# EAGLE library part TX25-100P-6ST-H1E (library JAE_By_element14_Batch_1)
PCB to PCB Connectors
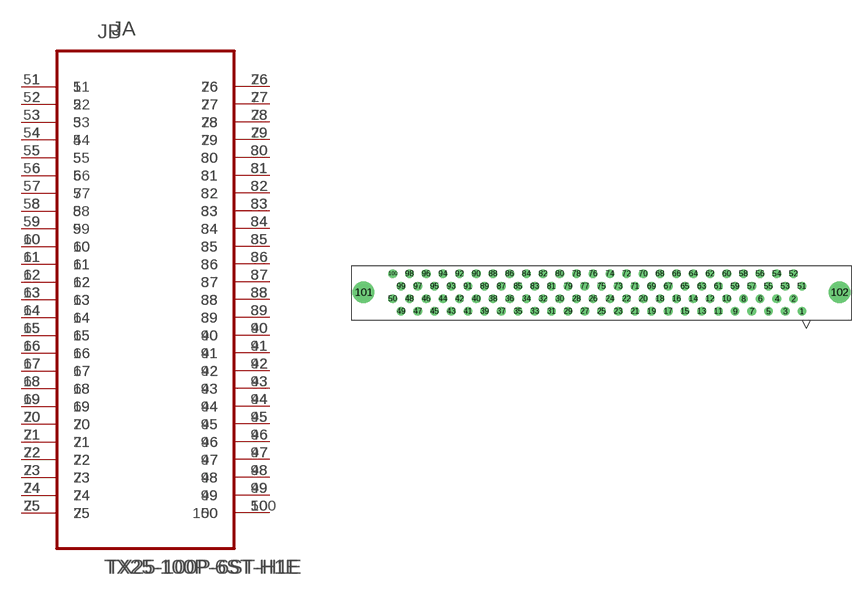
[diagram p13: symbol with the pads of JAE_TX25-100P-6ST-H1E; footprint JAE_TX25-100P-6ST-H1E]

Designator prefix J; gates A=TX25-100P-6ST-H1E_A B=TX25-100P-6ST-H1E_B

## TX25-100P-6ST-H1E (MPN: TX25-100P-6ST-H1E; OC_FARNELL: -; OC_NEWARK: 74M4885; PACKAGE: PLUG, VERTICAL, 100WAY; SUPPLIER: JAE)  [JAE_TX25-100P-6ST-H1E]
1  A:1  pas
2  A:2  pas
3  A:3  pas
4  A:4  pas
5  A:5  pas
6  A:6  pas
7  A:7  pas
8  A:8  pas
9  A:9  pas
10  A:10  pas
11  A:11  pas
12  A:12  pas
13  A:13  pas
14  A:14  pas
15  A:15  pas
16  A:16  pas
17  A:17  pas
18  A:18  pas
19  A:19  pas
20  A:20  pas
21  A:21  pas
22  A:22  pas
23  A:23  pas
24  A:24  pas
25  A:25  pas
26  A:26  pas
27  A:27  pas
28  A:28  pas
29  A:29  pas
30  A:30  pas
31  A:31  pas
32  A:32  pas
33  A:33  pas
34  A:34  pas
35  A:35  pas
36  A:36  pas
37  A:37  pas
38  A:38  pas
39  A:39  pas
40  A:40  pas
41  A:41  pas
42  A:42  pas
43  A:43  pas
44  A:44  pas
45  A:45  pas
46  A:46  pas
47  A:47  pas
48  A:48  pas
49  A:49  pas
50  A:50  pas
51  B:51  pas
52  B:52  pas
53  B:53  pas
54  B:54  pas
55  B:55  pas
56  B:56  pas
57  B:57  pas
58  B:58  pas
59  B:59  pas
60  B:60  pas
61  B:61  pas
62  B:62  pas
63  B:63  pas
64  B:64  pas
65  B:65  pas
66  B:66  pas
67  B:67  pas
68  B:68  pas
69  B:69  pas
70  B:70  pas
71  B:71  pas
72  B:72  pas
73  B:73  pas
74  B:74  pas
75  B:75  pas
76  B:76  pas
77  B:77  pas
78  B:78  pas
79  B:79  pas
80  B:80  pas
81  B:81  pas
82  B:82  pas
83  B:83  pas
84  B:84  pas
85  B:85  pas
86  B:86  pas
87  B:87  pas
88  B:88  pas
89  B:89  pas
90  B:90  pas
91  B:91  pas
92  B:92  pas
93  B:93  pas
94  B:94  pas
95  B:95  pas
96  B:96  pas
97  B:97  pas
98  B:98  pas
99  B:99  pas
100  B:100  pas

## Footprint JAE_TX25-100P-6ST-H1E (pad centres in mm)
drill 0.813: 1 30.48,-6.858; 2 29.21,-4.953; 3 27.94,-6.858; 4 26.67,-4.953; 5 25.4,-6.858; 6 24.13,-4.953; 7 22.86,-6.858; 8 21.59,-4.953; 9 20.32,-6.858; 10 19.05,-4.953; 11 17.78,-6.858; 12 16.51,-4.953; 13 15.24,-6.858; 14 13.97,-4.953; 15 12.7,-6.858; 16 11.43,-4.953; 17 10.16,-6.858; 18 8.89,-4.953; 19 7.62,-6.858; 20 6.35,-4.953; 21 5.08,-6.858; 22 3.81,-4.953; 23 2.54,-6.858; 24 1.27,-4.953; 25 0,-6.858; 26 -1.27,-4.953; 27 -2.54,-6.858; 28 -3.81,-4.953; 29 -5.08,-6.858; 30 -6.35,-4.953; 31 -7.62,-6.858; 32 -8.89,-4.953; 33 -10.16,-6.858; 34 -11.43,-4.953; 35 -12.7,-6.858; 36 -13.97,-4.953; 37 -15.24,-6.858; 38 -16.51,-4.953; 39 -17.78,-6.858; 40 -19.05,-4.953; 41 -20.32,-6.858; 42 -21.59,-4.953; 43 -22.86,-6.858; 44 -24.13,-4.953; 45 -25.4,-6.858; 46 -26.67,-4.953; 47 -27.94,-6.858; 48 -29.21,-4.953; 49 -30.48,-6.858; 50 -31.75,-4.953; 51 30.48,-3.048; 52 29.21,-1.143; 53 27.94,-3.048; 54 26.67,-1.143; 55 25.4,-3.048; 56 24.13,-1.143; 57 22.86,-3.048; 58 21.59,-1.143; 59 20.32,-3.048; 60 19.05,-1.143; 61 17.78,-3.048; 62 16.51,-1.143; 63 15.24,-3.048; 64 13.97,-1.143; 65 12.7,-3.048; 66 11.43,-1.143; 67 10.16,-3.048; 68 8.89,-1.143; 69 7.62,-3.048; 70 6.35,-1.143; 71 5.08,-3.048; 72 3.81,-1.143; 73 2.54,-3.048; 74 1.27,-1.143; 75 0,-3.048; 76 -1.27,-1.143; 77 -2.54,-3.048; 78 -3.81,-1.143; 79 -5.08,-3.048; 80 -6.35,-1.143; 81 -7.62,-3.048; 82 -8.89,-1.143; 83 -10.16,-3.048; 84 -11.43,-1.143; 85 -12.7,-3.048; 86 -13.97,-1.143; 87 -15.24,-3.048; 88 -16.51,-1.143; 89 -17.78,-3.048; 90 -19.05,-1.143; 91 -20.32,-3.048; 92 -21.59,-1.143; 93 -22.86,-3.048; 94 -24.13,-1.143; 95 -25.4,-3.048; 96 -26.67,-1.143; 97 -27.94,-3.048; 98 -29.21,-1.143; 99 -30.48,-3.048; 100 -31.75,-1.143
drill 2.21: 101 -36.195,-3.988; 102 36.195,-3.988